# EAGLE library part TRIODE-DUAL (library Tubes)
Dual Triode
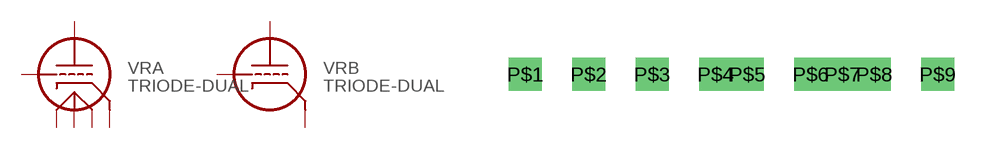
[diagram p0: symbol with the pads of 9PIN; footprint 9PIN]

Designator prefix VR; gates A=TRIODE-TAPPED-HEATER B=TRIODE

## TRIODE-DUAL  [9PIN]
P$1  A:A  pas
P$2  A:G  pas
P$3  A:H1  pas
P$4  A:H2  pas
P$5  A:H3  pas
P$6  A:K  pas
P$7  B:A  pas
P$8  B:G  pas
P$9  B:K  pas

## TRIODE-DUAL12AX7 (SPICE: X{NAME}A {A.A.NET} {A.G.NET} {A.K.NET} 12AX7\nX{NAME}B {B.A.NET} {B.G.NET} {B.K.NET} 12AX7; SPICEMOD: .SUBCKT 12AX7 A G K\nBca ca 0 V=45+V(A,K)+95.43*V(G,K)\nBre re 0 V=URAMP(V(A,K)/5)-URAMP(V(A,K)/5-1)\nBaa A K I=V(re)*1.147E-6*(URAMP(V(ca))^1.5)\nBgg G K I=5E-6*(URAMP(V(G,K)+0.2)^1.5)\nCgk G K 1.6P\nCgp G A 1.7P\nCpk A K 0.46P\n.ENDS)  [9PIN]
Pads as for 9PIN

## Footprint 9PIN (pad centres in mm)
drill 0.8 square: P$1 0,1.27; P$2 2.54,1.27; P$3 5.08,1.27; P$4 7.62,1.27; P$5 8.89,1.27; P$6 11.43,1.27; P$7 12.7,1.27; P$8 13.97,1.27; P$9 16.51,1.27